# Altium schematic symbol library TPS563200DDC.SchLib: 1 symbol
Pins are listed as number, name and electrical type; pins without a type are passive.

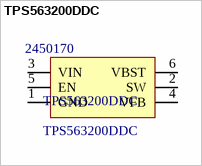
[diagram p0: symbol TPS563200DDC]

## TPS563200DDC
designator TPS563200DDC  Supplier Part Number 1: 2450170
Supplier 1: Farnell
footprint SOT23-6
pins: 1 GND, 2 SW, 3 VIN, 4 VFB, 5 EN, 6 VBST